# Altium footprint library Header 6.PcbLib: 1 footprints
Each footprint in its own frame and in the unit in brackets; x right, y up, seen from the top. Pads: shape width x height; smd on the part's side, far side on the other; paste and mask are expansions set on the pad; w line width, h text height; cw(c..) or ccw(c..) is an arc to the next point about the centre after c.
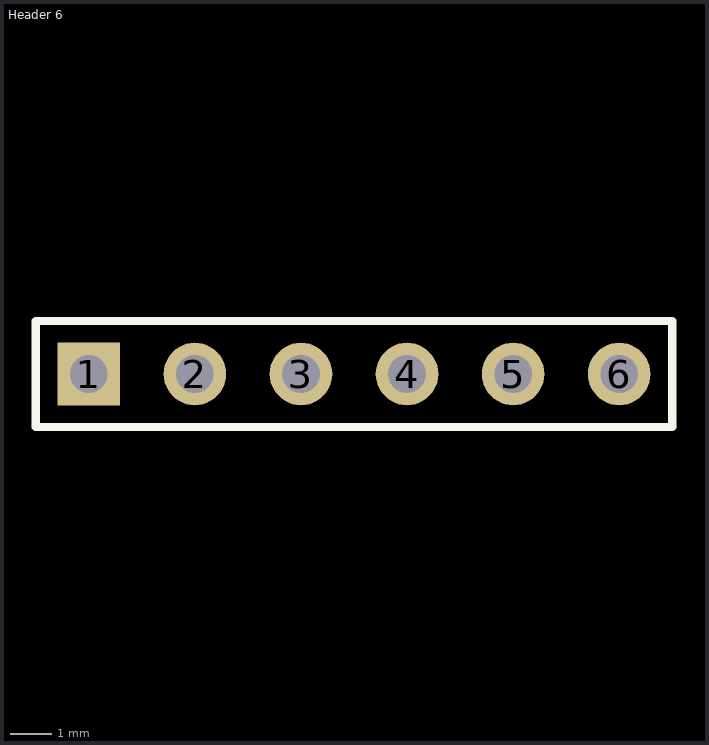
[diagram p0: the footprint, top view; thin cyan lines are the x and y axes]

## Header 6 [mm]
pads (6):
  rect 1.5x1.5 hole 0.9: 1(23.876,12.065)
  round 1.5 hole 0.9: 2(26.416,12.065) 3(28.956,12.065) 4(31.496,12.065) 5(34.036,12.065) 6(36.576,12.065)
Top Overlay:
  lines w0.2: 22.606,10.795 22.606,13.335 37.846,13.335 37.846,10.795 22.606,10.795
3D body "1x6 TH Vert 100mil.step": height 8.38, standoff -3.3, extent 22.606,10.795 37.846,13.335